# EAGLE library part MOLSL_6PIN (library daqcs)
Molex SL Series 6-Position Connector Wire to board 2.54 mm (.1 inch) pitch header (right-angle or vertical) Housing: Vendor=Molex, Vendor_PN=0050579406 22-24 AWG Crimp: Vendor=Molex, Vendor_PN=0016020087 Wires: AWG,Amps (Max) 22, 3.0 24, 3.0 26, 1.8 28, 1.2
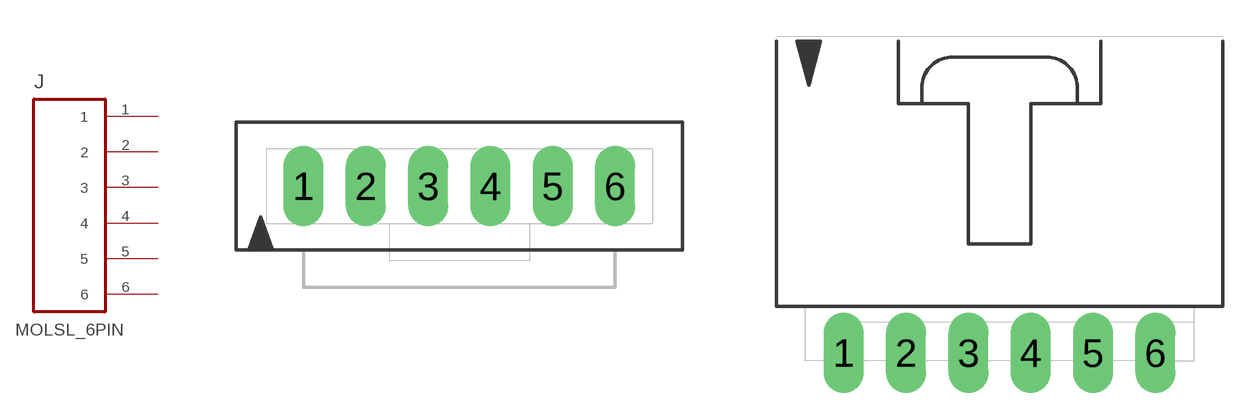
[diagram p11: symbol with the pads of MOLSL-6-V; footprints MOLSL-6-V, MOLSL-6-RA]

Designator prefix J

## MOLSL_6PIN_SL6V_V (DATASHEET: HW/docs/projects/raspi_zero_power_sensor_hat/datasheets/connectors/uart_1wire_power_battery/705430001_sd.pdf; FINISH: GOLD; LOCKING: YES; MANUFACTURER: Molex; MANUFACTURER_PN: 0705430005; MAX_CURRENT: 3.0A; MOUNT_ANGLE: VERTICAL; MOUNT_TYPE: TH; POSITIONS: 6; VALUE: MOL-SL-6-V; VENDOR: Digi-key; VENDOR_PN: WM4126-ND)  [MOLSL-6-V]
1  1
2  2
3  3
4  4
5  5
6  6

## MOLSL_6PIN_SL6RA_RA (DATASHEET: HW/docs/projects/raspi_zero_power_sensor_hat/datasheets/connectors/uart_1wire_power_battery/705530001_sd.pdf; FINISH: GOLD; LOCKING: YES; MANUFACTURER: Molex; MANUFACTURER_PN: 0705530005; MAX_CURRENT: 3.0A; MOUNT_ANGLE: RIGHT; MOUNT_TYPE: TH; POSITIONS: 6; VALUE: MOL-SL-6-RA; VENDOR: Digi-key; VENDOR_PN: WM4904-ND)  [MOLSL-6-RA]
Pads as for MOLSL-6-V

## Footprint MOLSL-6-V (pad centres in mm)
C-Grid SL Connector vertical, 6 pin
drill 1.09 long: 1 -6.35,0; 2 -3.81,0; 3 -1.27,0; 4 1.27,0; 5 3.81,0; 6 6.35,0

## Footprint MOLSL-6-RA (pad centres in mm)
C-Grid SL Connector right angle, 6 pin
drill 1.09 long: 1 -6.35,-7.62; 2 -3.81,-7.62; 3 -1.27,-7.62; 4 1.27,-7.62; 5 3.81,-7.62; 6 6.35,-7.62